# Altium footprint library myPcbLib1.PcbLib: 99 footprints (part 7 of 7)
Each footprint in its own frame and in the unit in brackets; x right, y up, seen from the top. Pads: shape width x height; smd on the part's side, far side on the other; paste and mask are expansions set on the pad; w line width, h text height; cw(c..) or ccw(c..) is an arc to the next point about the centre after c.
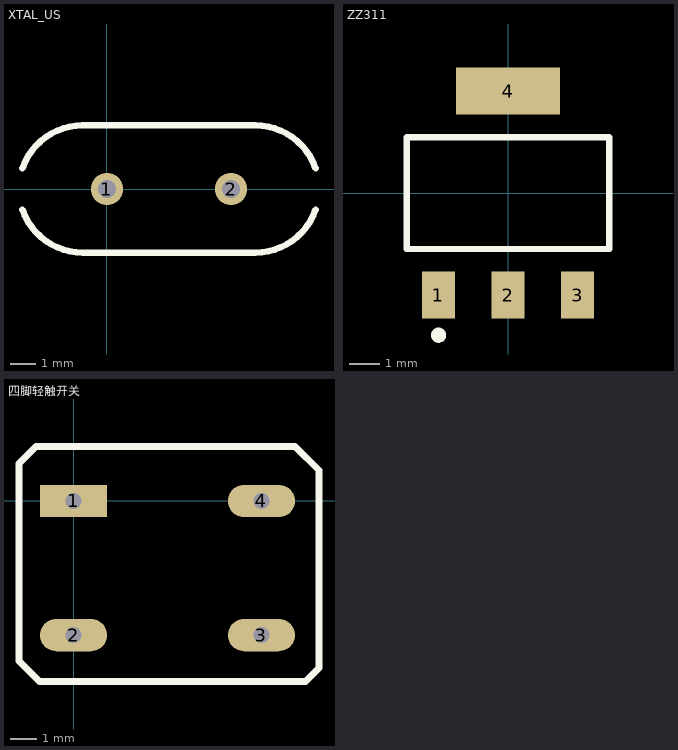
[diagram p6: the footprints below, top view; thin cyan lines are the x and y axes]

## XTAL_US [mil]
pads (2):
  round 50 hole 28: 1(0,0) 2(192.13,0)
Top Overlay:
  lines w10: -130.92,-31.85 ccw(c-37.79,0) -37.79,-98.42 ; -130.92,31.85 cw(c-37.79,0) -37.79,98.43 ; -38,98.42 229.92,98.43 cw(c229.92,0) 323.05,31.85 ; -37.8,-98.43 229.92,-98.42 ccw(c229.92,0) 323.05,-31.85

## ZZ311 [mm] "SOT-223/SC-73; 4 Leads; Body 6.7 x 7.3 mm, inc. leads (LxW max)"
pads (4):
  rect 1.1x1.55 smd: 1(-2.3,-3.375) 2(0,-3.375) 3(2.3,-3.375)
  rect 3.45x1.55 smd: 4(0,3.375)
Top Overlay:
  circle w0.25: c-2.3,-4.7 r0.125
  lines w0.2: -3.35,-1.85 -3.35,1.85 3.35,1.85 3.35,-1.85 -3.35,-1.85

## 四脚轻触开关 [mm]
pads (4):
  rect 2.5x1.2 hole 0.6: 1(0,0)
  oval 2.5x1.2 hole 0.6: 2(0,-5) 3(7,-5) 4(7,0)
Top Overlay:
  lines w0.254: -2.032,-5.969 -1.27,-6.731 8.636,-6.731 9.144,-6.223 9.144,1.143 8.255,2.032 7.874,2.032 -1.143,2.032 -1.397,2.032 -2.032,1.397 -2.032,-5.969